# EAGLE library part M8S-04PMMR-SF8001 (library M8S-04PMMR-SF8001)
Circular Metric Connectors M8 PANEL R/A PCB 4P M CONN M PIN Source: Datasheet <http://uk.rs-online.com/web/p/products/1747631>
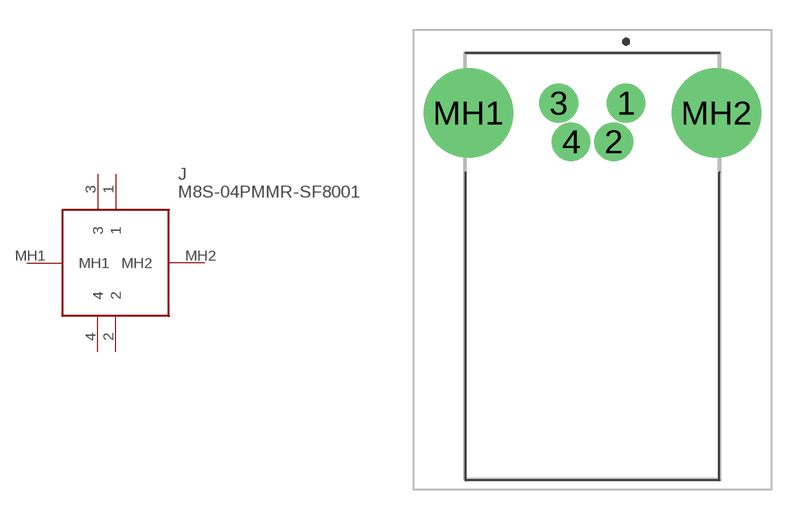
[diagram p0: symbol with the pads of M8S04PMMRSF8001; footprint M8S04PMMRSF8001]

Designator prefix J

## M8S-04PMMR-SF8001 (Allied_Number: 70970693; Description: Circular Metric Connectors M8 PANEL R/A PCB 4P M CONN M PIN; Height: 14.25mm; Manufacturer_Name: Amphenol; Manufacturer_Part_Number: M8S-04PMMR-SF8001; RS_Part_Number: 1747631; RS_Price-Stock: http://uk.rs-online.com/web/p/products/1747631)  [M8S04PMMRSF8001]
1  1
2  2
3  3
4  4
MH1  MH1
MH2  MH2

## Footprint M8S04PMMRSF8001 (pad centres in mm)
M8S-04PMMR-SF8001-3
drill 1.3 pad 1.9: 1 0,0; 2 -0.625,-1.95; 3 -3.4,0; 4 -2.775,-1.95
drill 3 pad 4.5: MH1 -7.95,-0.5; MH2 4.55,-0.5